# Altium schematic symbol library Slide Switch.SchLib: 1 symbol
Pins are listed as number, name and electrical type; pins without a type are passive.

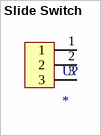
[diagram p0: symbol Slide Switch]

## Slide Switch
designator U?
footprint Slide Switch
pins: 1, 2, 3